# EAGLE library part HMC8193LC4 (library My_Library_2)
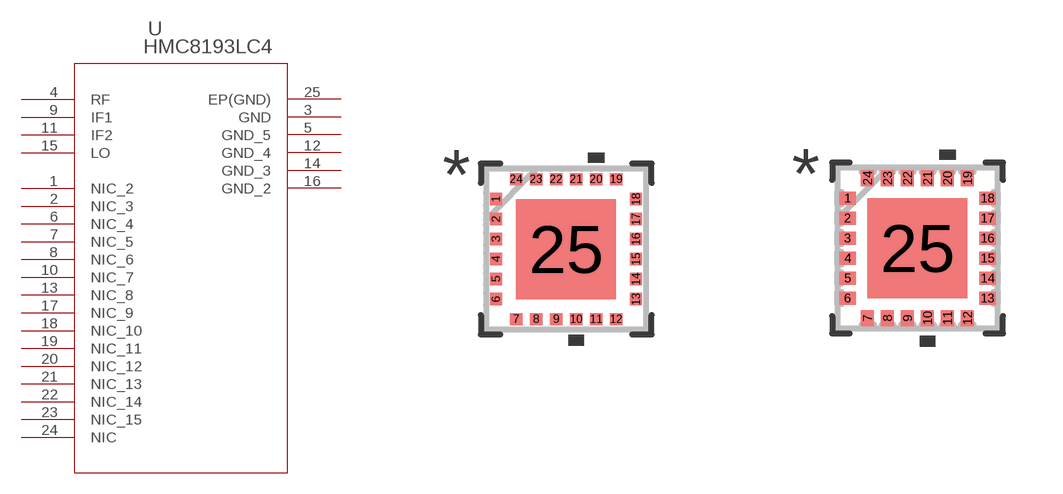
[diagram p11: symbol with the pads of E_24_1; footprints E_24_1, E_24_1-M]

Designator prefix U

## HMC8193LC4 (COPYRIGHT: Copyright (C) 2025 Ultra Librarian. All rights reserved.; MANUFACTURER_PART_NUMBER: HMC8193LC4; MFR_NAME: Analog Devices Inc)  [E_24_1]
1  NIC_2  pas
2  NIC_3  pas
3  GND  pas
4  RF  pas
5  GND_5  pas
6  NIC_4  pas
7  NIC_5  pas
8  NIC_6  pas
9  IF1  pas
10  NIC_7  pas
11  IF2  pas
12  GND_4  pas
13  NIC_8  pas
14  GND_3  pas
15  LO  pas
16  GND_2  pas
17  NIC_9  pas
18  NIC_10  pas
19  NIC_11  pas
20  NIC_12  pas
21  NIC_13  pas
22  NIC_14  pas
23  NIC_15  pas
24  NIC  pas
25  EP(GND)  pas

## HMC8193LC4E_24_1-M (COPYRIGHT: Copyright (C) 2025 Ultra Librarian. All rights reserved.; MANUFACTURER_PART_NUMBER: HMC8193LC4; MFR_NAME: Analog Devices Inc)  [E_24_1-M]
Pads as for E_24_1

## HMC8193LC4E_24_1-L (COPYRIGHT: Copyright (C) 2025 Ultra Librarian. All rights reserved.; MANUFACTURER_PART_NUMBER: HMC8193LC4; MFR_NAME: Analog Devices Inc)  [E_24_1-L]
Pads as for E_24_1

## Footprint E_24_1 (pad centres in mm)
smd 0.3 x 0.305: 1 -1.75,1.25; 2 -1.75,0.75; 3 -1.75,0.25; 4 -1.75,-0.25; 5 -1.75,-0.75; 6 -1.75,-1.25; 13 1.75,-1.25; 14 1.75,-0.75; 15 1.75,-0.25; 16 1.75,0.25; 17 1.75,0.75; 18 1.75,1.25
smd 0.305 x 0.3: 7 -1.25,-1.75; 8 -0.75,-1.75; 9 -0.25,-1.75; 10 0.25,-1.75; 11 0.75,-1.75; 12 1.25,-1.75; 19 1.25,1.75; 20 0.75,1.75; 21 0.25,1.75; 22 -0.25,1.75; 23 -0.75,1.75; 24 -1.25,1.75
smd 2.5 x 2.5: 25 0,0

## Footprint E_24_1-M (pad centres in mm)
smd 0.402 x 0.325: 1 -1.75,1.25; 2 -1.75,0.75; 3 -1.75,0.25; 4 -1.75,-0.25; 5 -1.75,-0.75; 6 -1.75,-1.25; 13 1.75,-1.25; 14 1.75,-0.75; 15 1.75,-0.25; 16 1.75,0.25; 17 1.75,0.75; 18 1.75,1.25
smd 0.325 x 0.402: 7 -1.25,-1.75; 8 -0.75,-1.75; 9 -0.25,-1.75; 10 0.25,-1.75; 11 0.75,-1.75; 12 1.25,-1.75; 19 1.25,1.75; 20 0.75,1.75; 21 0.25,1.75; 22 -0.25,1.75; 23 -0.75,1.75; 24 -1.25,1.75
smd 2.5 x 2.5: 25 0,0

## Footprint E_24_1-L (pad centres in mm)
smd 0.198 x 0.275: 1 -1.75,1.25; 2 -1.75,0.75; 3 -1.75,0.25; 4 -1.75,-0.25; 5 -1.75,-0.75; 6 -1.75,-1.25; 13 1.75,-1.25; 14 1.75,-0.75; 15 1.75,-0.25; 16 1.75,0.25; 17 1.75,0.75; 18 1.75,1.25
smd 0.275 x 0.198: 7 -1.25,-1.75; 8 -0.75,-1.75; 9 -0.25,-1.75; 10 0.25,-1.75; 11 0.75,-1.75; 12 1.25,-1.75; 19 1.25,1.75; 20 0.75,1.75; 21 0.25,1.75; 22 -0.25,1.75; 23 -0.75,1.75; 24 -1.25,1.75
smd 2.5 x 2.5: 25 0,0